# Altium schematic symbol library OPTO_RELAY_2.SchLib: 1 symbol
Pins are listed as number, name and electrical type; pins without a type are passive.

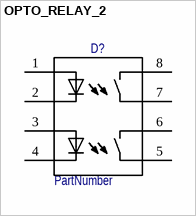
[diagram p0: symbol OPTO_RELAY_2]

## OPTO_RELAY_2
designator D?  (value not drawn)
Две оптопары в корпусе; PartNumber: PartNumber
pins: 1 A, 2 C, 3 Out1, 4 Out2, 5 Out3, 6 Out4, 7 Out5, 8 Out6